# Altium schematic symbol library drewsparts.SchLib: 10 symbols
Pins are listed as number, name and electrical type; pins without a type are passive.

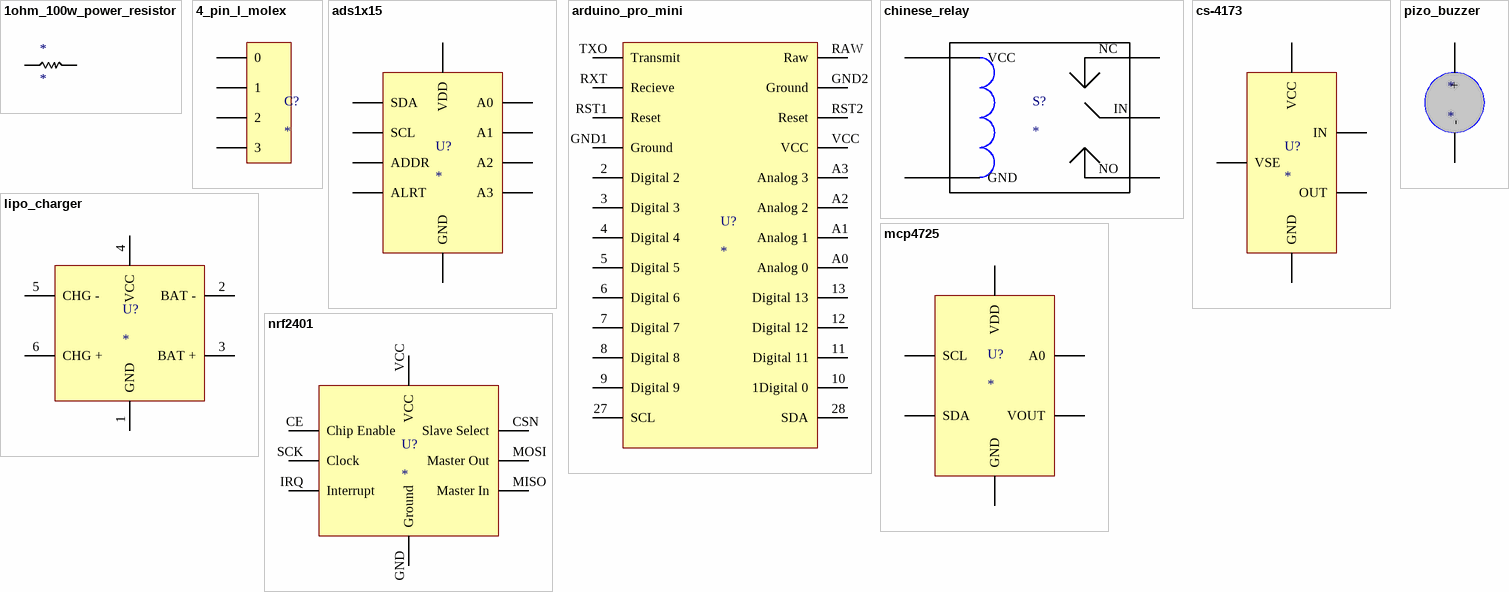
[diagram p0: symbols 1ohm_100w_power_resistor to pizo_buzzer]

## 1ohm_100w_power_resistor
designator *
footprint 1ohm_100w
pins: 1, 2

## 4_pin_l_molex
designator C?
footprint 4_pin_l_molex
pins: 0, 1, 2, 3

## ads1x15
designator U?
footprint ads1x15
pins: A0, A1, A2, A3, ADDR, ALRT, GND, SCL, SDA, VDD

## arduino_pro_mini
designator U?
footprint arduino_pro_mini
pins: 2 Digital 2, 3 Digital 3, 4 Digital 4, 5 Digital 5, 6 Digital 6, 7 Digital 7, 8 Digital 8, 9 Digital 9, 10 1Digital 0, 11 Digital 11, 12 Digital 12, 13 Digital 13, 27 SCL, 28 SDA, A0 Analog 0, A1 Analog 1, A2 Analog 2, A3 Analog 3, GND1 Ground, GND2 Ground, RAW Raw, RST1 Reset, RST2 Reset, RXT Recieve, TXO Transmit, VCC

## chinese_relay
designator S?
footprint chinese_relay
pins: GND, IN, NC, NO, VCC

## cs-4173
designator U?
footprint cs-4173
pins: GND, IN, OUT, VCC, VSE

## lipo_charger
designator U?
footprint lipo_charger
pins: 1 GND, 2 BAT -, 3 BAT +, 4 VCC, 5 CHG -, 6 CHG +

## mcp4725
designator U?
footprint mcp4725
pins: A0, GND, SCL, SDA, VDD, VOUT

## nrf2401
designator U?
footprint nrf2401
pins: CE Chip Enable, CSN Slave Select, GND Ground, IRQ Interrupt, MISO Master In, MOSI Master Out, SCK Clock, VCC

## pizo_buzzer
designator *
footprint pizo_buzzer
pins: 0 -, 1 +